# Altium footprint library IntLib.PcbLib: 1 footprints
Each footprint in its own frame and in the unit in brackets; x right, y up, seen from the top. Pads: shape width x height; smd on the part's side, far side on the other; paste and mask are expansions set on the pad; w line width, h text height; cw(c..) or ccw(c..) is an arc to the next point about the centre after c.
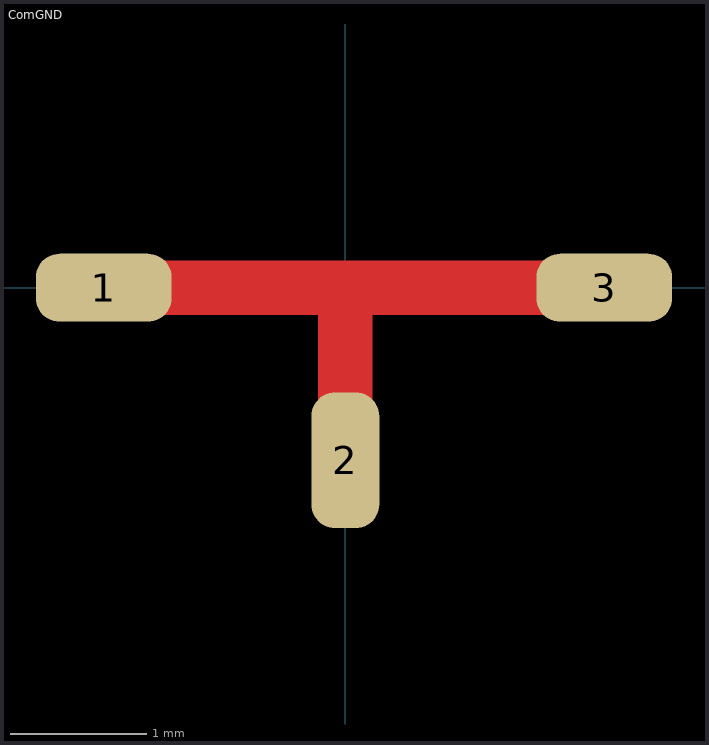
[diagram p0: the footprint, top view; thin cyan lines are the x and y axes]

## ComGND [mm]
pads (3):
  rrect70% 1x0.5 smd: 1(-1.778,0) 3(1.905,0)
  rrect70% 0.5x1 smd: 2(0,-1.27)
Top Layer:
  lines w0.4: -1.778,0 1.905,0 ; 0,-1.27 0,0